# Altium footprint library 2002411222.PcbLib: 1 footprints
Each footprint in its own frame and in the unit in brackets; x right, y up, seen from the top. Pads: shape width x height; smd on the part's side, far side on the other; paste and mask are expansions set on the pad; w line width, h text height; cw(c..) or ccw(c..) is an arc to the next point about the centre after c.
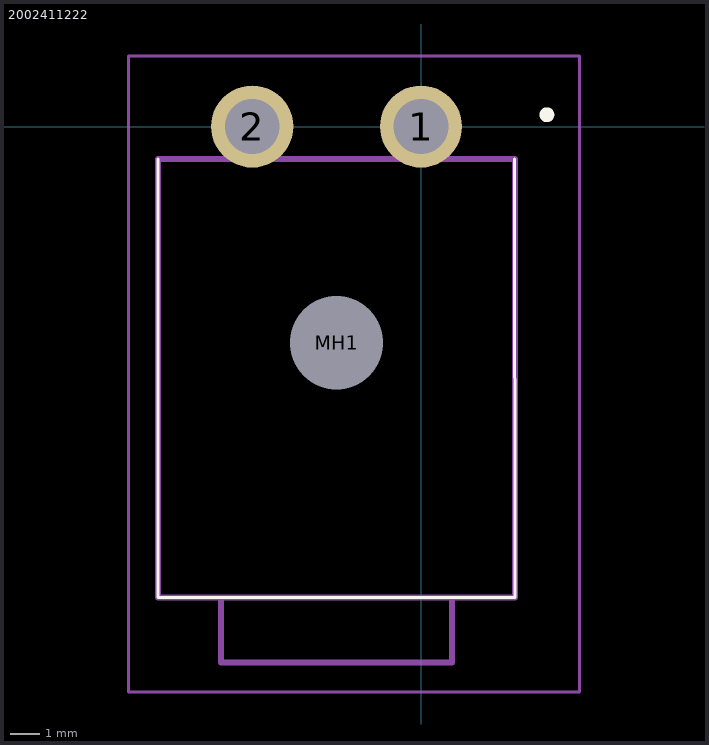
[diagram p0: the footprint, top view; thin cyan lines are the x and y axes]

## 2002411222 [mm]
pads (3):
  round 2.775 hole 1.85: 1(0,0) 2(-5.7,0)
  round 1.575 hole 3.15 unplated: MH1(-2.85,-7.3)
Top Overlay:
  lines w0.1: -8.875,-1.1 -8.875,-15.9 3.175,-15.9 3.15,-1.1
  lines w0.3: 4.15,0.4 4.15,0.4 ; 4.15,0.4 ccw(c4.25,0.4) 4.35,0.4 ; 4.15,0.4 cw(c4.25,0.4) 4.35,0.4 ; 4.35,0.4 4.35,0.4
Mechanical 15:
  lines w0.2: -6.75,-15.9 -6.75,-18.1 1.05,-18.1 1.05,-15.9 ; -8.875,-15.9 3.175,-15.9 3.175,-1.1 -8.875,-1.1 -8.875,-15.9
Mechanical 20:
  lines w0.1: -9.875,-19.1 5.35,-19.1 5.35,2.388 -9.875,2.388 -9.875,-19.1